# EAGLE library part RT9526 (library ds_ic_vreg)
Linear Single Cell Li-Ion Battery Charger with Input Over Voltage Protection
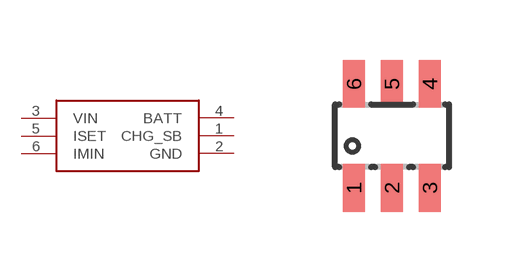
[diagram p18: symbol with the pads of SOT23-6; footprint SOT23-6]

Designator prefix -

## RT9526  [SOT23-6]
1  CHG_SB
2  GND
3  VIN
4  BATT
5  ISET
6  IMIN

## Footprint SOT23-6 (pad centres in mm)
smd 0.55 x 1.2: 1 -0.95,-1.3; 2 0,-1.3; 3 0.95,-1.3; 4 0.95,1.3; 5 0,1.3; 6 -0.95,1.3